# Altium footprint library DIP794W45P254L1969H508Q16.PcbLib: 1 footprints
Each footprint in its own frame and in the unit in brackets; x right, y up, seen from the top. Pads: shape width x height; smd on the part's side, far side on the other; paste and mask are expansions set on the pad; w line width, h text height; cw(c..) or ccw(c..) is an arc to the next point about the centre after c.
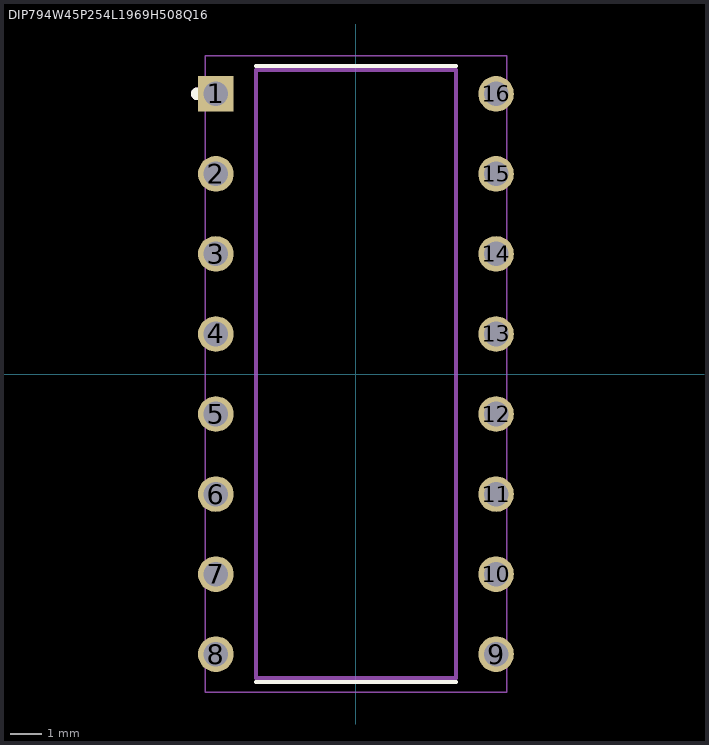
[diagram p0: the footprint, top view; thin cyan lines are the x and y axes]

## DIP794W45P254L1969H508Q16 [mm]
pads (16):
  rect 1.13x1.13 hole 0.78: 1(-4.445,8.89)
  round 1.13 hole 0.78: 2(-4.445,6.35) 3(-4.445,3.81) 4(-4.445,1.27) 5(-4.445,-1.27) 6(-4.445,-3.81) 7(-4.445,-6.35) 8(-4.445,-8.89) 9(4.445,-8.89) 10(4.445,-6.35) 11(4.445,-3.81) 12(4.445,-1.27) 13(4.445,1.27) 14(4.445,3.81) 15(4.445,6.35) 16(4.445,8.89)
Top Overlay:
  circle w0.2: c-5.035,8.89 r0.1
  lines w0.127: -3.175,-9.775 3.175,-9.775 ; -3.175,9.775 3.175,9.775
Mechanical 13:
  circle w0.2: c-5.035,8.89 r0.1
  lines w0.127: -3.175,-9.653 3.175,-9.653 3.175,9.653 -3.175,9.653 -3.175,-9.653
Mechanical 15:
  lines w0.05: -4.785,-10.095 4.785,-10.095 4.785,10.095 -4.785,10.095 -4.785,-10.095
3D body "PCF8574N.STEP": height 5.08, standoff -3.17, extent -5.461,-9.652 5.461,9.652